# EAGLE library part SFW06R (library con-fci)
FPC Connector
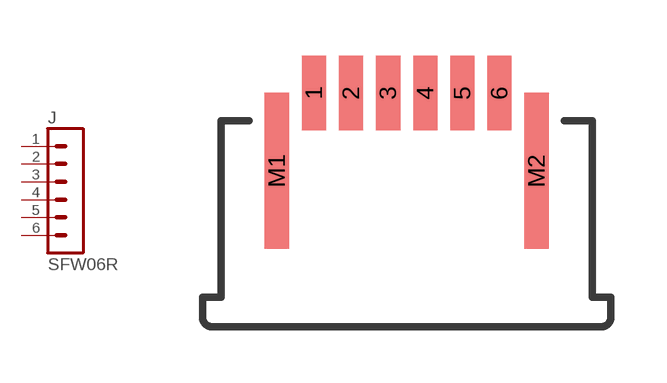
[diagram p0: symbol with the pads of SFW06R; footprint SFW06R]

Designator prefix J

## SFW06R  [SFW06R]
1  1  pas
2  2  pas
3  3  pas
4  4  pas
5  5  pas
6  6  pas

## Footprint SFW06R (pad centres in mm)
FFC/FPC - 1mm Right Angle, SMT Bottom Contact
smd 0.65 x 2: 1 -2.5,1; 2 -1.5,1; 3 -0.5,1; 4 0.5,1; 5 1.5,1; 6 2.5,1
smd 0.65 x 4.2: M1 -3.5,-1.1; M2 3.5,-1.1